# Altium footprint library LFCSP-64.PcbLib: 1 footprints
Each footprint in its own frame and in the unit in brackets; x right, y up, seen from the top. Pads: shape width x height; smd on the part's side, far side on the other; paste and mask are expansions set on the pad; w line width, h text height; cw(c..) or ccw(c..) is an arc to the next point about the centre after c.
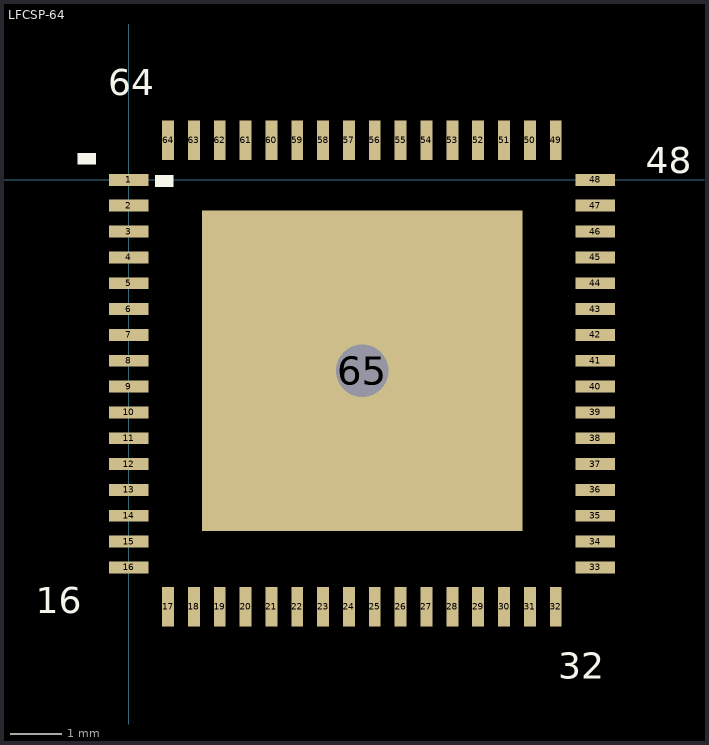
[diagram p0: the footprint, top view; thin cyan lines are the x and y axes]

## LFCSP-64 [mm]
pads (66):
  rect 0.762x0.23 smd: 1(0,0) 2(0,-0.5) 3(0,-1) 4(0,-1.5) 5(0,-2) 6(0,-2.5) 7(0,-3) 8(0,-3.5) 9(0,-4) 10(0,-4.5) 11(0,-5) 12(0,-5.5) 13(0,-6) 14(0,-6.5) 15(0,-7) 16(0,-7.5) 33(9.024,-7.5) 34(9.024,-7) 35(9.024,-6.5) 36(9.024,-6) 37(9.024,-5.5) 38(9.024,-5) 39(9.024,-4.5) 40(9.024,-4) 41(9.024,-3.5) 42(9.024,-3) 43(9.024,-2.5) 44(9.024,-2) 45(9.024,-1.5) 46(9.024,-1) 47(9.024,-0.5) 48(9.024,0)
  rect 0.23x0.762 smd: 17(0.762,-8.263) 18(1.262,-8.263) 19(1.762,-8.263) 20(2.262,-8.263) 21(2.762,-8.263) 22(3.262,-8.263) 23(3.762,-8.263) 24(4.262,-8.263) 25(4.762,-8.263) 26(5.262,-8.263) 27(5.762,-8.263) 28(6.262,-8.263) 29(6.762,-8.263) 30(7.262,-8.263) 31(7.762,-8.263) 32(8.262,-8.263) 49(8.262,0.762) 50(7.762,0.762) 51(7.262,0.762) 52(6.762,0.762) 53(6.262,0.762) 54(5.762,0.762) 55(5.262,0.762) 56(4.762,0.762) 57(4.262,0.762) 58(3.762,0.762) 59(3.262,0.762) 60(2.762,0.762) 61(2.262,0.762) 62(1.762,0.762) 63(1.262,0.762) 64(0.762,0.762)
  rect 6.2x6.2 smd: 65(4.515,-3.69)
  round 2.032 hole 1.016: 65(4.515,-3.69)
Top Overlay:
  rectangle: -0.986,0.292 -0.632,0.518
  rectangle: 0.508,-0.142 0.864,0.089
  text "16" at -1.796,-8.382 h0.51
  text "32" at 8.311,-9.657 h0.51
  text "48" at 10.008,0.124 h0.51
  text "64" at -0.396,1.636 h0.51
3D body: height 0.82, standoff -0.05, extent 0.001,-8.259 9.001,0.741
3D body: height 0, standoff 0, extent 3.398,-4.808 5.633,-2.572